# Altium integrated library Discrete.IntLib: 130 symbols
Pins are listed as number, name and electrical type; pins without a type are passive.

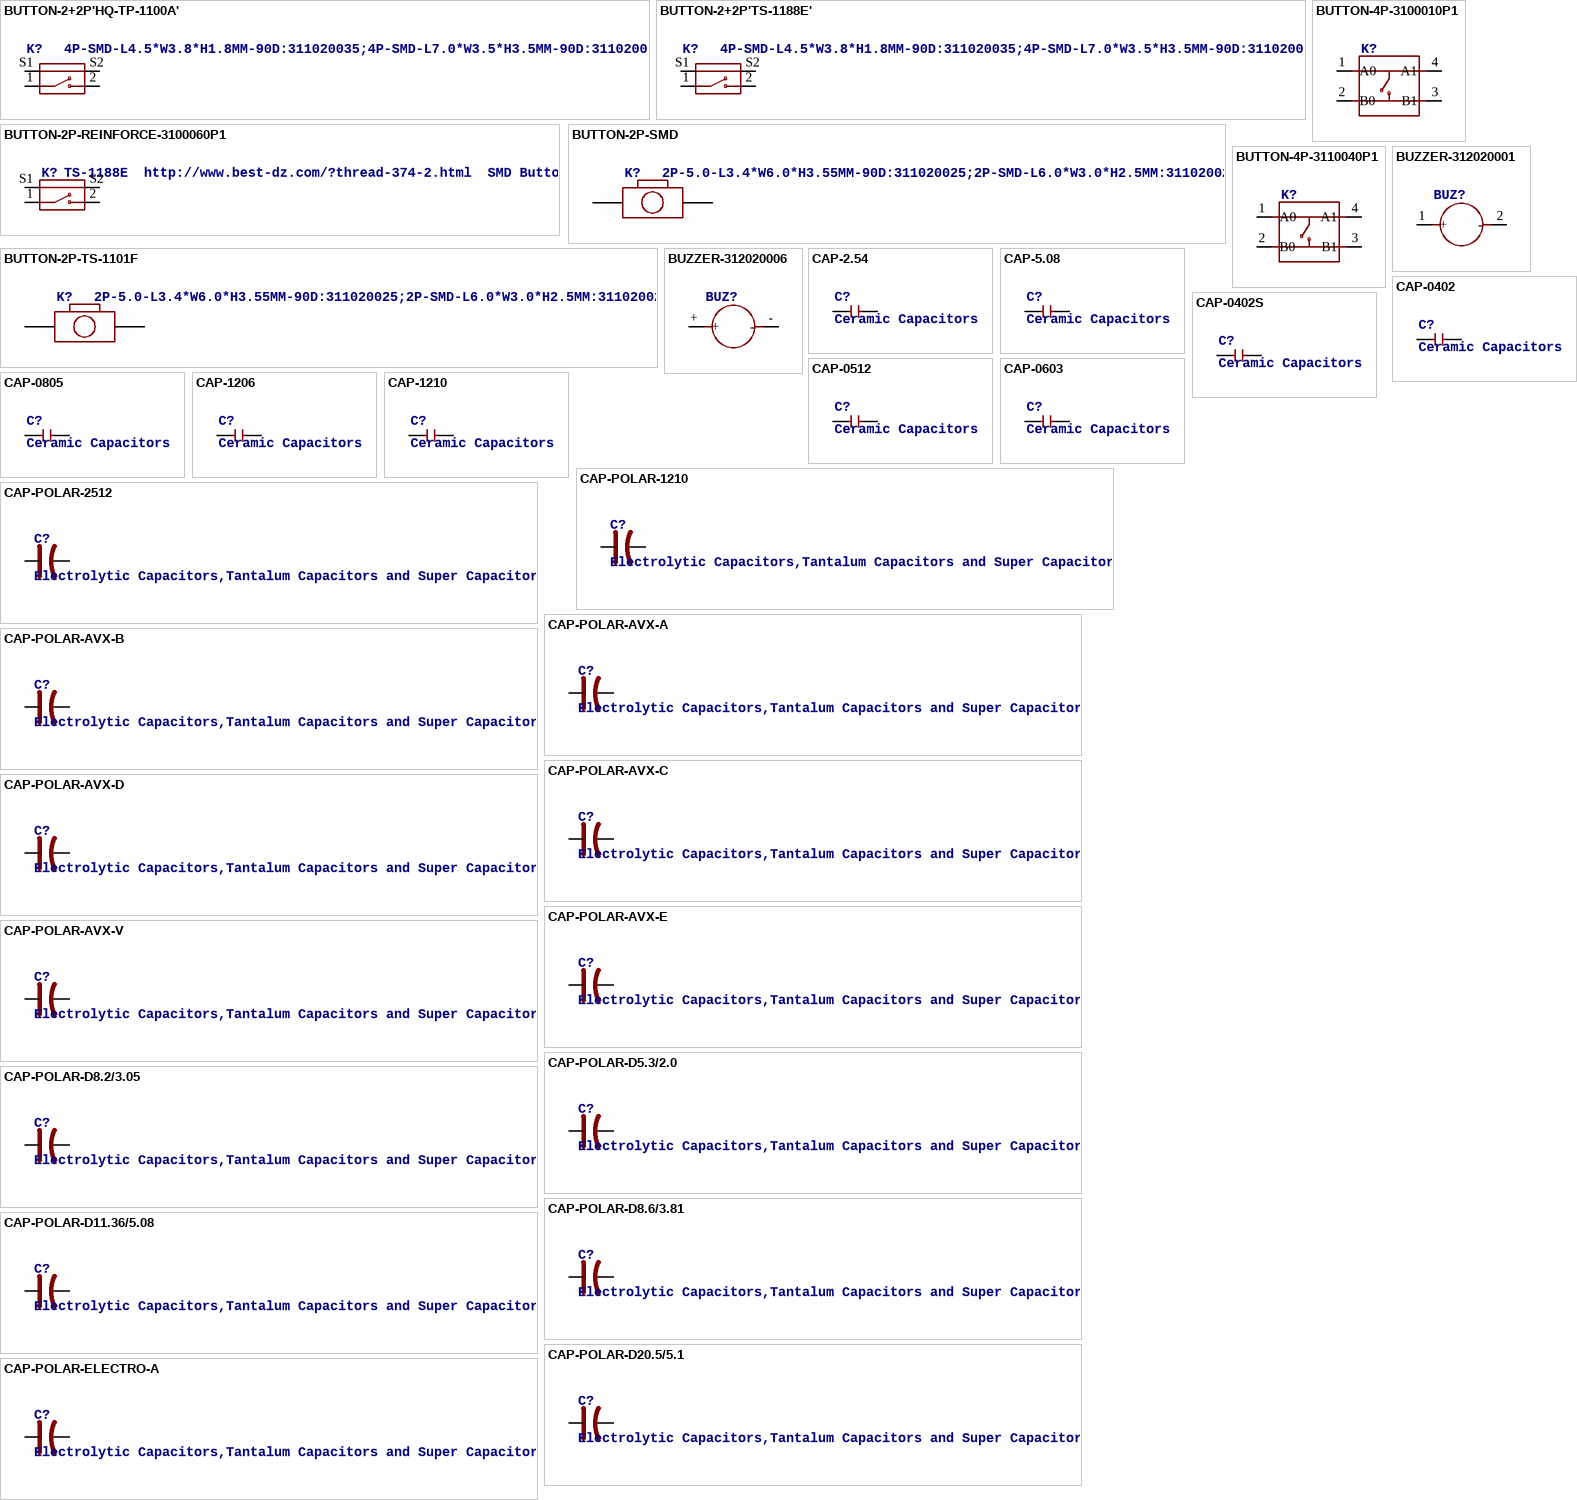
[diagram p0: symbols BUTTON-2+2P'HQ-TP-1100A' to CAP-POLAR-ELECTRO-A]

## BUTTON-2+2P'HQ-TP-1100A'
designator K?, comment 4P-SMD-L4.5*W3.8*H1.8MM-90D:311020035;4P-SMD-L7.0*W3.5*H3.5MM-90D:311020023
footprint 4P-SMD-L4.5*W3.8*H1.8MM-90D
pins: 1, 2, S1, S2

## BUTTON-2+2P'TS-1188E'
designator K?, comment 4P-SMD-L4.5*W3.8*H1.8MM-90D:311020035;4P-SMD-L7.0*W3.5*H3.5MM-90D:311020023
footprint 4P-SMD-L7.0*W3.5*H3.5MM-90D
pins: 1, 2, S1, S2

## BUTTON-2P-REINFORCE-3100060P1
designator K?, comment TS-1188E  http://www.best-dz.com/?thread-374-2.html  SMD Button
footprint 4P-SMD-L7.0XW3.5XH3.5MM-90D
pins: 1, 2, S1, S2

## BUTTON-2P-SMD
designator K?, comment 2P-5.0-L3.4*W6.0*H3.55MM-90D:311020025;2P-SMD-L6.0*W3.0*H2.5MM:311020029
footprint 2P-SMD-L6.0XW3.0XH2.5MM
pins: 1, P$2 2

## BUTTON-2P-TS-1101F
designator K?, comment 2P-5.0-L3.4*W6.0*H3.55MM-90D:311020025;2P-SMD-L6.0*W3.0*H2.5MM:311020029
footprint 2P-5.0-L3.4XW6.0XH3.55MM-90D
pins: P$1 1, P$2 2

## BUTTON-4P-3100010P1
designator K?
footprint 4P-SMD-L6.0XW6.0XH5.0
pins: 1 A0, 2 B0, 3 B1, 4 A1

## BUTTON-4P-3110040P1
designator K?
footprint 4P-L6.0XW6.0XH5.0
pins: 1 A0, 2 B0, 3 B1, 4 A1

## BUZZER-312020001
designator BUZ?
footprint 2P-5.0-D9.0XH5.5MM
pins: 1 +, 2 -

## BUZZER-312020006
designator BUZ?
footprint 2P-7.6-D12XH6.5MM
pins: +, -

## CAP-2.54
designator C?, comment Ceramic Capacitors
footprint RADIAL-DISC-2.54-D4.0MM
pins: 1, 2

## CAP-5.08
designator C?, comment Ceramic Capacitors
footprint AXIAL-D1.6XL6.35MM
pins: 1, 2

## CAP-0402
designator C?, comment Ceramic Capacitors
footprint C0402
pins: 1, 2

## CAP-0402S
designator C?, comment Ceramic Capacitors
footprint C0402S
pins: 1, 2

## CAP-0512
designator C?, comment Ceramic Capacitors
footprint AXIAL-D1.6XL12MM
pins: P$1 1, P$2 2

## CAP-0603
designator C?, comment Ceramic Capacitors
footprint C0603
pins: 1, 2

## CAP-0805
designator C?, comment Ceramic Capacitors
footprint C0805
pins: 1, 2

## CAP-1206
designator C?, comment Ceramic Capacitors
footprint C1206
pins: 1, 2

## CAP-1210
designator C?, comment Ceramic Capacitors
footprint C1210
pins: 1, 2

## CAP-POLAR-1210
designator C?, comment Electrolytic Capacitors,Tantalum Capacitors and Super Capacitors
footprint 1210
pins: +, -

## CAP-POLAR-2512
designator C?, comment Electrolytic Capacitors,Tantalum Capacitors and Super Capacitors
footprint 2512L
pins: +, -

## CAP-POLAR-AVX-A
designator C?, comment Electrolytic Capacitors,Tantalum Capacitors and Super Capacitors
footprint AVX-A
pins: +, -

## CAP-POLAR-AVX-B
designator C?, comment Electrolytic Capacitors,Tantalum Capacitors and Super Capacitors
footprint AVX-B
pins: +, -

## CAP-POLAR-AVX-C
designator C?, comment Electrolytic Capacitors,Tantalum Capacitors and Super Capacitors
footprint AVX-C
pins: +, -

## CAP-POLAR-AVX-D
designator C?, comment Electrolytic Capacitors,Tantalum Capacitors and Super Capacitors
footprint AVX-D
pins: +, -

## CAP-POLAR-AVX-E
designator C?, comment Electrolytic Capacitors,Tantalum Capacitors and Super Capacitors
footprint AVX-E
pins: +, -

## CAP-POLAR-AVX-V
designator C?, comment Electrolytic Capacitors,Tantalum Capacitors and Super Capacitors
footprint AVX-V
pins: +, -

## CAP-POLAR-D5.3/2.0
designator C?, comment Electrolytic Capacitors,Tantalum Capacitors and Super Capacitors
footprint RADIAL-2.0-D5.0*H7MM
pins: +, -

## CAP-POLAR-D8.2/3.05
designator C?, comment Electrolytic Capacitors,Tantalum Capacitors and Super Capacitors
footprint RADIAL-D8.2MM
pins: 1 +, 2 -

## CAP-POLAR-D8.6/3.81
designator C?, comment Electrolytic Capacitors,Tantalum Capacitors and Super Capacitors
footprint RADIAL-D8.6MM
pins: +, -

## CAP-POLAR-D11.36/5.08
designator C?, comment Electrolytic Capacitors,Tantalum Capacitors and Super Capacitors
footprint RADIAL-D11.36MM
pins: +, -

## CAP-POLAR-D20.5/5.1
designator C?, comment Electrolytic Capacitors,Tantalum Capacitors and Super Capacitors
footprint RADIAL-D20.5MM
pins: +, -

## CAP-POLAR-ELECTRO-A
designator C?, comment Electrolytic Capacitors,Tantalum Capacitors and Super Capacitors
footprint ELECTRO-SMD-A-3.8MM
pins: +, -

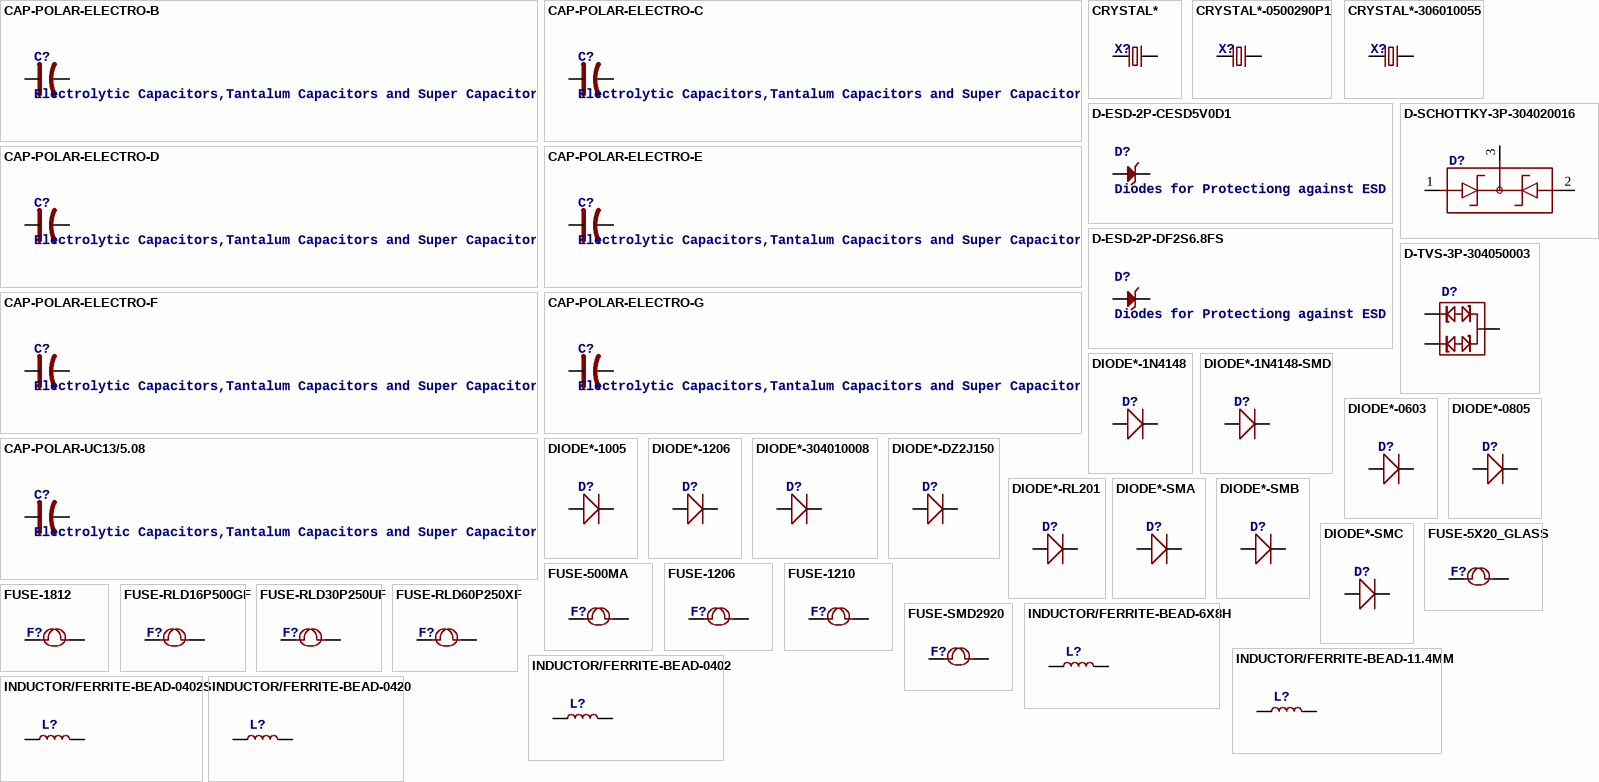
[diagram p1: symbols CAP-POLAR-ELECTRO-B to INDUCTOR/FERRITE-BEAD-0420]

## CAP-POLAR-ELECTRO-B
designator C?, comment Electrolytic Capacitors,Tantalum Capacitors and Super Capacitors
footprint ELECTRO-SMD-B-4.8MM
pins: +, -

## CAP-POLAR-ELECTRO-C
designator C?, comment Electrolytic Capacitors,Tantalum Capacitors and Super Capacitors
footprint ELECTRO-SMD-C-6MM
pins: +, -

## CAP-POLAR-ELECTRO-D
designator C?, comment Electrolytic Capacitors,Tantalum Capacitors and Super Capacitors
footprint ELECTRO-SMD-D-5.6MM
pins: +, -

## CAP-POLAR-ELECTRO-E
designator C?, comment Electrolytic Capacitors,Tantalum Capacitors and Super Capacitors
footprint ELECTRO-SMD-E-7.8MM
pins: +, -

## CAP-POLAR-ELECTRO-F
designator C?, comment Electrolytic Capacitors,Tantalum Capacitors and Super Capacitors
footprint ELECTRO-SMD-F-9.6MM
pins: +, -

## CAP-POLAR-ELECTRO-G
designator C?, comment Electrolytic Capacitors,Tantalum Capacitors and Super Capacitors
footprint ELECTRO-SMD-G-10MM
pins: +, -

## CAP-POLAR-UC13/5.08
designator C?, comment Electrolytic Capacitors,Tantalum Capacitors and Super Capacitors
footprint RADIAL-D13.5MM
pins: +, -

## CRYSTAL*
designator X?
footprint HC49US
pins: 1, 2

## CRYSTAL*-0500290P1
designator X?
footprint 2P-L5.0XW3.2MM
pins: 1, 2

## CRYSTAL*-306010055
designator X?
footprint 2P-L3.2XW1.5MM
pins: 1, 2

## D-ESD-2P-CESD5V0D1
designator D?, comment Diodes for Protectiong against ESD
footprint SOD123-2.7X1.6
pins: 1, 2

## D-ESD-2P-DF2S6.8FS
designator D?, comment Diodes for Protectiong against ESD
footprint 2P-SMD-0.8X0.6X0.48H
pins: 1 2, 2 1

## D-SCHOTTKY-3P-304020016
designator D?
footprint SOT-23
pins: 1, 2, 3

## D-TVS-3P-304050003
designator D?
footprint SOT-23
pins: 1 (power), 2 (power), 3

## DIODE*-1N4148
designator D?
footprint DO-35
pins: A +, C -

## DIODE*-1N4148-SMD
designator D?
footprint LL-34
pins: A +, C -

## DIODE*-0603
designator D?
footprint SOD-523
pins: +, -

## DIODE*-0805
designator D?
footprint SOD-323
pins: +, -

## DIODE*-1005
designator D?
footprint D1005
pins: +, -

## DIODE*-1206
designator D?
footprint SOD-123
pins: +, -

## DIODE*-304010008
designator D?
footprint DO-41
pins: 1 +, 2 -

## DIODE*-DZ2J150
designator D?
footprint SMINI2-F5-B
pins: +, -

## DIODE*-RL201
designator D?
footprint DO-15
pins: +, -

## DIODE*-SMA
designator D?
footprint DO-214AC
pins: 1 +, 2 -

## DIODE*-SMB
designator D?
footprint DO-220AA
pins: +, -

## DIODE*-SMC
designator D?
footprint DO-214AB
pins: 1 +, 2 -

## FUSE-5X20_GLASS
designator F?
footprint 5X20
pins: 1, 2

## FUSE-500MA
designator F?
footprint 3366
pins: 1, 2

## FUSE-1206
designator F?
footprint F1206
pins: 1, 2

## FUSE-1210
designator F?
footprint F1210
pins: 1, 2

## FUSE-1812
designator F?
footprint 1812
pins: 1, 2

## FUSE-RLD16P500GF
designator F?
footprint 0212
pins: 1, 2

## FUSE-RLD30P250UF
designator F?
footprint 0311
pins: 1, 2

## FUSE-RLD60P250XF
designator F?
footprint 0320
pins: 1, 2

## FUSE-SMD2920
designator F?
footprint 2920
pins: 1, 2

## INDUCTOR/FERRITE-BEAD-6X8H
designator L?
footprint 2P-D6.5XH8.0MM
pins: 1, 2

## INDUCTOR/FERRITE-BEAD-11.4MM
designator L?
footprint 2P-ROUND-D11.4MM
pins: 1, 2

## INDUCTOR/FERRITE-BEAD-0402
designator L?
footprint L0402
pins: 1, 2

## INDUCTOR/FERRITE-BEAD-0402S
designator L?
footprint L0402S
pins: 1, 2

## INDUCTOR/FERRITE-BEAD-0420
designator L?
footprint L0420
pins: 1, 2

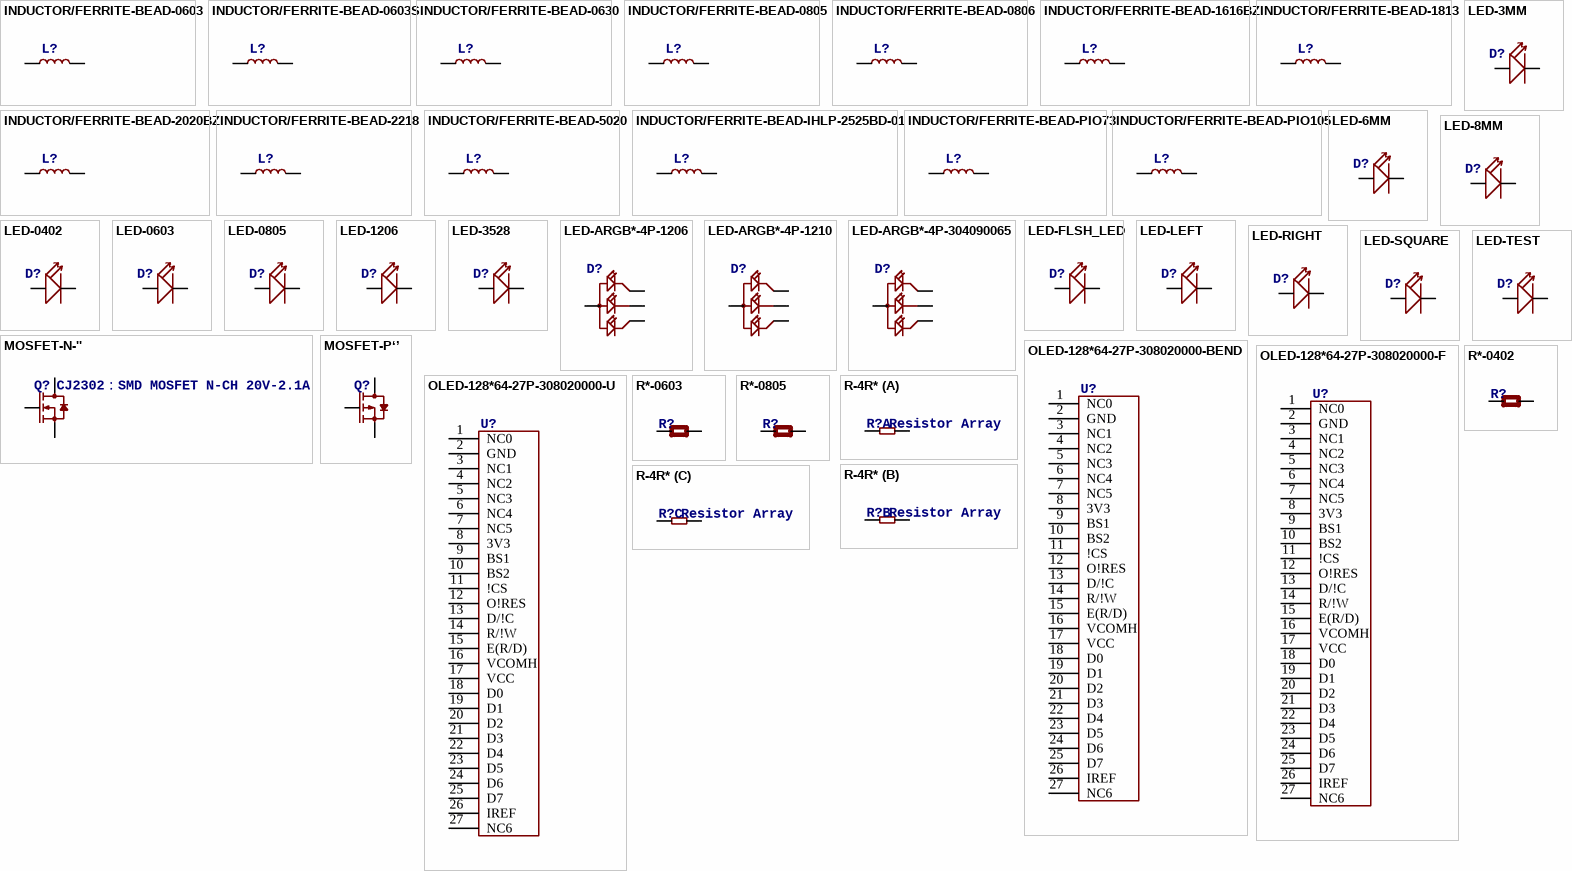
[diagram p2: symbols INDUCTOR/FERRITE-BEAD-0603 to R-4R*]

## INDUCTOR/FERRITE-BEAD-0603
designator L?
footprint L0603
pins: 1, 2

## INDUCTOR/FERRITE-BEAD-0603S
designator L?
footprint L0603S
pins: 1, 2

## INDUCTOR/FERRITE-BEAD-0630
designator L?
footprint L0630
pins: 1, 2

## INDUCTOR/FERRITE-BEAD-0805
designator L?
footprint L0805
pins: 1, 2

## INDUCTOR/FERRITE-BEAD-0806
designator L?
footprint 0806
pins: 1, 2

## INDUCTOR/FERRITE-BEAD-1616BZ
designator L?
footprint 1616BZ
pins: 1, 2

## INDUCTOR/FERRITE-BEAD-1813
designator L?
footprint 1813
pins: 1, 2

## INDUCTOR/FERRITE-BEAD-2020BZ
designator L?
footprint 2020BZ
pins: 1, 2

## INDUCTOR/FERRITE-BEAD-2218
designator L?
footprint 2218
pins: P$1 1, P$2 2

## INDUCTOR/FERRITE-BEAD-5020
designator L?
footprint 5020
pins: 1, 2

## INDUCTOR/FERRITE-BEAD-IHLP-2525BD-01
designator L?
footprint 2626
pins: 1, 2

## INDUCTOR/FERRITE-BEAD-PIO73
designator L?
footprint PIO73
pins: 1, 2

## INDUCTOR/FERRITE-BEAD-PIO105
designator L?
footprint PIO105
pins: 1, 2

## LED-3MM
designator D?
footprint RADIAL-2P-2.54-3.0MM
pins: A +, K -

## LED-6MM
designator D?
footprint LED-2P-2.54-6MM
pins: +, -

## LED-8MM
designator D?
footprint 2P-SMD-D8.0MM
pins: +, -

## LED-0402
designator D?
footprint LED-0402
pins: +, -

## LED-0603
designator D?
footprint LED-0603
pins: +, -

## LED-0805
designator D?
footprint LED-0805
pins: +, -

## LED-1206
designator D?
footprint LED-1206
pins: +, -

## LED-3528
designator D?
footprint LED-3528
pins: 1 +, 2 -

## LED-ARGB*-4P-1206
designator D?
footprint LED-4P-1206-3.0X1.5
pins: 1 B, 2 +, 3 G, 4 R

## LED-ARGB*-4P-1210
designator D?
footprint LED-4P-1210-3.0X2.54
pins: 1 +, 2 R, 3 G, 4 B

## LED-ARGB*-4P-304090065
designator D?
footprint LED-4P-2.0-8MM
pins: 1 R, 2 +, 3 G, 4 B

## LED-FLSH_LED
designator D?
footprint LED-2P-2.54-5MM-90D
pins: +, -

## LED-LEFT
designator D?
footprint LED-SIDE-VIEW-0603-LEFT
pins: 1 +, 2 -

## LED-RIGHT
designator D?
footprint LED-SIDE-VIEW-0603-RIGHT
pins: 1 +, 2 -

## LED-SQUARE
designator D?
footprint LED-2P-2.54-L4.8XW2.54MM
pins: A +, K -

## LED-TEST
designator D?
footprint LED-2P-2.54-5MM
pins: +, -

## MOSFET-N-''
designator Q?, comment CJ2302：SMD MOSFET N-CH 20V-2.1A
footprint SOT23
pins: 1 G, 2 S, 3 D

## MOSFET-P‘’
designator Q?
footprint SOT23
pins: 1 G, 2 S, 3 D

## OLED-128*64-27P-308020000-BEND
designator U?
footprint 27P-0.6-BEND
pins: 1 NC0, 2 GND, 3 NC1, 4 NC2, 5 NC3, 6 NC4, 7 NC5, 8 3V3, 9 BS1, 10 BS2, 11 !CS, 12 O!RES, 13 D/!C, 14 R/!W, 15 E(R/D), 16 VCOMH, 17 VCC, 18 D0, 19 D1, 20 D2, 21 D3, 22 D4, 23 D5, 24 D6, 25 D7, 26 IREF, 27 NC6

## OLED-128*64-27P-308020000-F
designator U?
footprint 27P-0.6
pins: 1 NC0, 2 GND, 3 NC1, 4 NC2, 5 NC3, 6 NC4, 7 NC5, 8 3V3, 9 BS1, 10 BS2, 11 !CS, 12 O!RES, 13 D/!C, 14 R/!W, 15 E(R/D), 16 VCOMH, 17 VCC, 18 D0, 19 D1, 20 D2, 21 D3, 22 D4, 23 D5, 24 D6, 25 D7, 26 IREF, 27 NC6

## OLED-128*64-27P-308020000-U
designator U?
footprint 27P-0.6-UP-DOWN
pins: 1 NC0, 2 GND, 3 NC1, 4 NC2, 5 NC3, 6 NC4, 7 NC5, 8 3V3, 9 BS1, 10 BS2, 11 !CS, 12 O!RES, 13 D/!C, 14 R/!W, 15 E(R/D), 16 VCOMH, 17 VCC, 18 D0, 19 D1, 20 D2, 21 D3, 22 D4, 23 D5, 24 D6, 25 D7, 26 IREF, 27 NC6

## R*-0402
designator R?
footprint R0402
pins: 1, 2

## R*-0603
designator R?
footprint R0603
pins: 1, 2

## R*-0805
designator R?
footprint R0805
pins: 1, 2

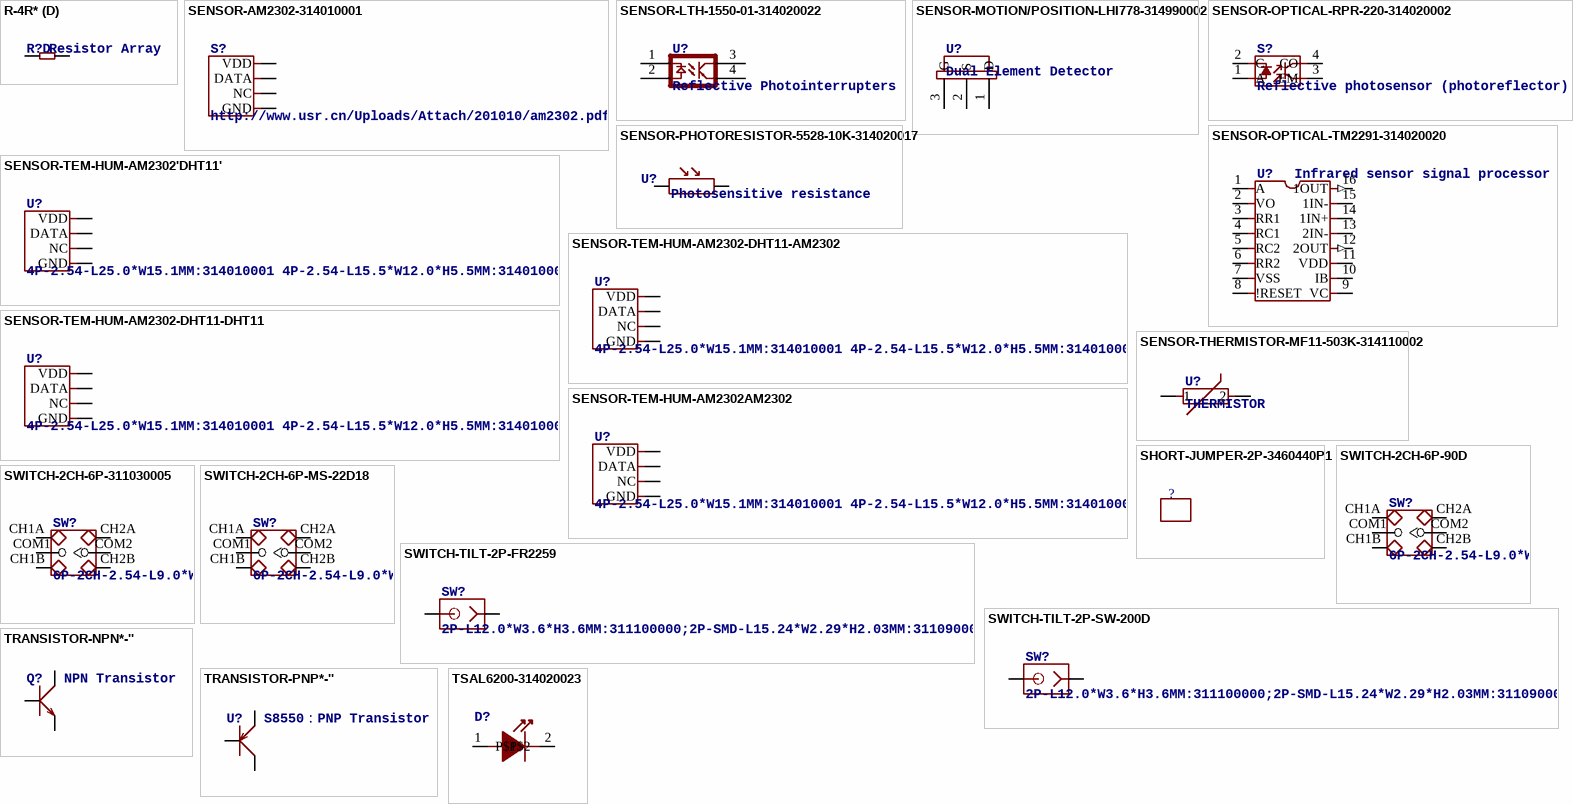
[diagram p3: symbols R-4R* to TSAL6200-314020023]

## R-4R*
designator R?, comment Resistor Array
footprint R1206-8
part A pins: 1, 8 2
part B pins: 2 1, 7 2
part C pins: 3 1, 6 2
part D pins: 4 1, 5 2

## SENSOR-AM2302-314010001
designator S?, comment http://www.usr.cn/Uploads/Attach/201010/am2302.pdf
footprint 4P-2.54
pins: P$1 VDD (oe), P$2 DATA, P$3 NC, P$4 GND (oe)

## SENSOR-LTH-1550-01-314020022
designator U?, comment Reflective Photointerrupters
footprint 4P-L8.7XW4.5XH5.8MM
pins: 1, 2, 3, 4

## SENSOR-MOTION/POSITION-LHI778-314990002
designator U?, comment Dual Element Detector
footprint 3P-D8.1XH4.2MM
pins: 1 D, 2 S, 3 G

## SENSOR-OPTICAL-RPR-220-314020002
designator S?, comment Reflective photosensor (photoreflector)
footprint 4P-L6.4XW4.9XH6.5MM
pins: 1 A, 2 C, 3 EM, 4 CO

## SENSOR-OPTICAL-TM2291-314020020
designator U?, comment Infrared sensor signal processor
footprint SOP-16
pins: 1 A, 2 VO, 3 RR1, 4 RC1, 5 RC2, 6 RR2, 7 VSS (oe), 8 !RESET, 9 VC, 10 IB, 11 VDD (oe), 12 2OUT (out), 13 2IN-, 14 1IN+, 15 1IN-, 16 1OUT (out)

## SENSOR-PHOTORESISTOR-5528-10K-314020017
designator U?, comment Photosensitive resistance
footprint 2P-3.0
pins: 1 P$1, 2 P$2

## SENSOR-TEM-HUM-AM2302'DHT11'
designator U?, comment 4P-2.54-L25.0*W15.1MM:314010001 4P-2.54-L15.5*W12.0*H5.5MM:314010000
footprint 4P-2.54-L15.5*W12.0*H5.5MM
pins: 1 VDD (oe), 2 DATA, 3 NC, 4 GND (oe)

## SENSOR-TEM-HUM-AM2302-DHT11-AM2302
designator U?, comment 4P-2.54-L25.0*W15.1MM:314010001 4P-2.54-L15.5*W12.0*H5.5MM:314010000
footprint 4P-2.54-L25.0XW15.1MM
pins: P$1 VDD (oe), P$2 DATA, P$3 NC, P$4 GND (oe)

## SENSOR-TEM-HUM-AM2302-DHT11-DHT11
designator U?, comment 4P-2.54-L25.0*W15.1MM:314010001 4P-2.54-L15.5*W12.0*H5.5MM:314010000
footprint 4P-2.54-L15.5XW12.0XH5.5MM
pins: 1 VDD (oe), 2 DATA, 3 NC, 4 GND (oe)

## SENSOR-TEM-HUM-AM2302AM2302
designator U?, comment 4P-2.54-L25.0*W15.1MM:314010001 4P-2.54-L15.5*W12.0*H5.5MM:314010000
footprint 4P-2.54-L25.0*W15.1MM
pins: P$1 VDD (oe), P$2 DATA, P$3 NC, P$4 GND (oe)

## SENSOR-THERMISTOR-MF11-503K-314110002
designator U?, comment THERMISTOR
footprint 2P-2.5-L6.5XW4.0MM
pins: 1, 2

## SHORT-JUMPER-2P-3460440P1
designator ?
footprint 2P-2.54

## SWITCH-2CH-6P-90D
designator SW?, comment 6P-2CH-2.54-L9.0*W3.5*H3.2+2.0MM:311010004;6P-2CH-2.54-L9.0*W3.5*H3.2-90D:311030004;6P-2CH-2.54-SMD-L7.0*W3.5*H1.5MM:311030005
footprint 6P-2CH-2.54-L9.0XW3.5XH3.2-90D
pins: CH1A, CH1B, CH2A, CH2B, COM1, COM2

## SWITCH-2CH-6P-311030005
designator SW?, comment 6P-2CH-2.54-L9.0*W3.5*H3.2+2.0MM:311010004;6P-2CH-2.54-L9.0*W3.5*H3.2-90D:311030004;6P-2CH-2.54-SMD-L7.0*W3.5*H1.5MM:311030005
footprint 6P-2CH-2.54-SMD-L7.0XW3.5XH1.5MM
pins: CH1A, CH1B, CH2A, CH2B, COM1, COM2

## SWITCH-2CH-6P-MS-22D18
designator SW?, comment 6P-2CH-2.54-L9.0*W3.5*H3.2+2.0MM:311010004;6P-2CH-2.54-L9.0*W3.5*H3.2-90D:311030004;6P-2CH-2.54-SMD-L7.0*W3.5*H1.5MM:311030005
footprint 6P-2CH-2.54-L9.0XW3.5XH3.2+2.0MM
pins: CH1A, CH1B, CH2A, CH2B, COM1, COM2

## SWITCH-TILT-2P-FR2259
designator SW?, comment 2P-L12.0*W3.6*H3.6MM:311100000;2P-SMD-L15.24*W2.29*H2.03MM:311090001
footprint 2P-SMD-L15.24XW2.29XH2.03MM
pins: 1, 2

## SWITCH-TILT-2P-SW-200D
designator SW?, comment 2P-L12.0*W3.6*H3.6MM:311100000;2P-SMD-L15.24*W2.29*H2.03MM:311090001
footprint 2P-L12.0XW3.6XH3.6MM
pins: 1, 2

## TRANSISTOR-NPN*-''
designator Q?, comment NPN Transistor
footprint SOT23
pins: 1 B, 2 E, 3 C

## TRANSISTOR-PNP*-''
designator U?, comment S8550：PNP Transistor
footprint SOT23
pins: 1 B, 2 E, 3 C

## TSAL6200-314020023
designator D?
footprint 2P-2.54-5MM
pins: 1 P$1, 2 P$2